# Altium schematic symbol library Diplexer.SchLib: 1 symbol
Pins are listed as number, name and electrical type; pins without a type are passive.

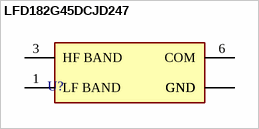
[diagram p0: symbol LFD182G45DCJD247]

## LFD182G45DCJD247
designator U?
-40℃~+85℃ 0.45dB 0.6dB 2.4GHz~2.5GHz 4.9GHz~5.95GHz SMD-6P,1.6x0.8mm Duplexers ROHS; Manufacturer 1: Murata Electronics; Manufacturer Part Number 1: LFD182G45DCJD247; Package: SMD-6P,1.6x0.8mm; Supplier 1: *; Supplier Part Number 1: *
footprint LFD182G45DCJD247 (Diplexer 2.4GHz and 5GHz)
pins: 1 LF BAND, 2 GND, 3 HF BAND, 5 GND, 6 COM, 7 GND